# Altium integrated library Renesas Microcontroller H8S.IntLib: 670 symbols (part 6 of 70)
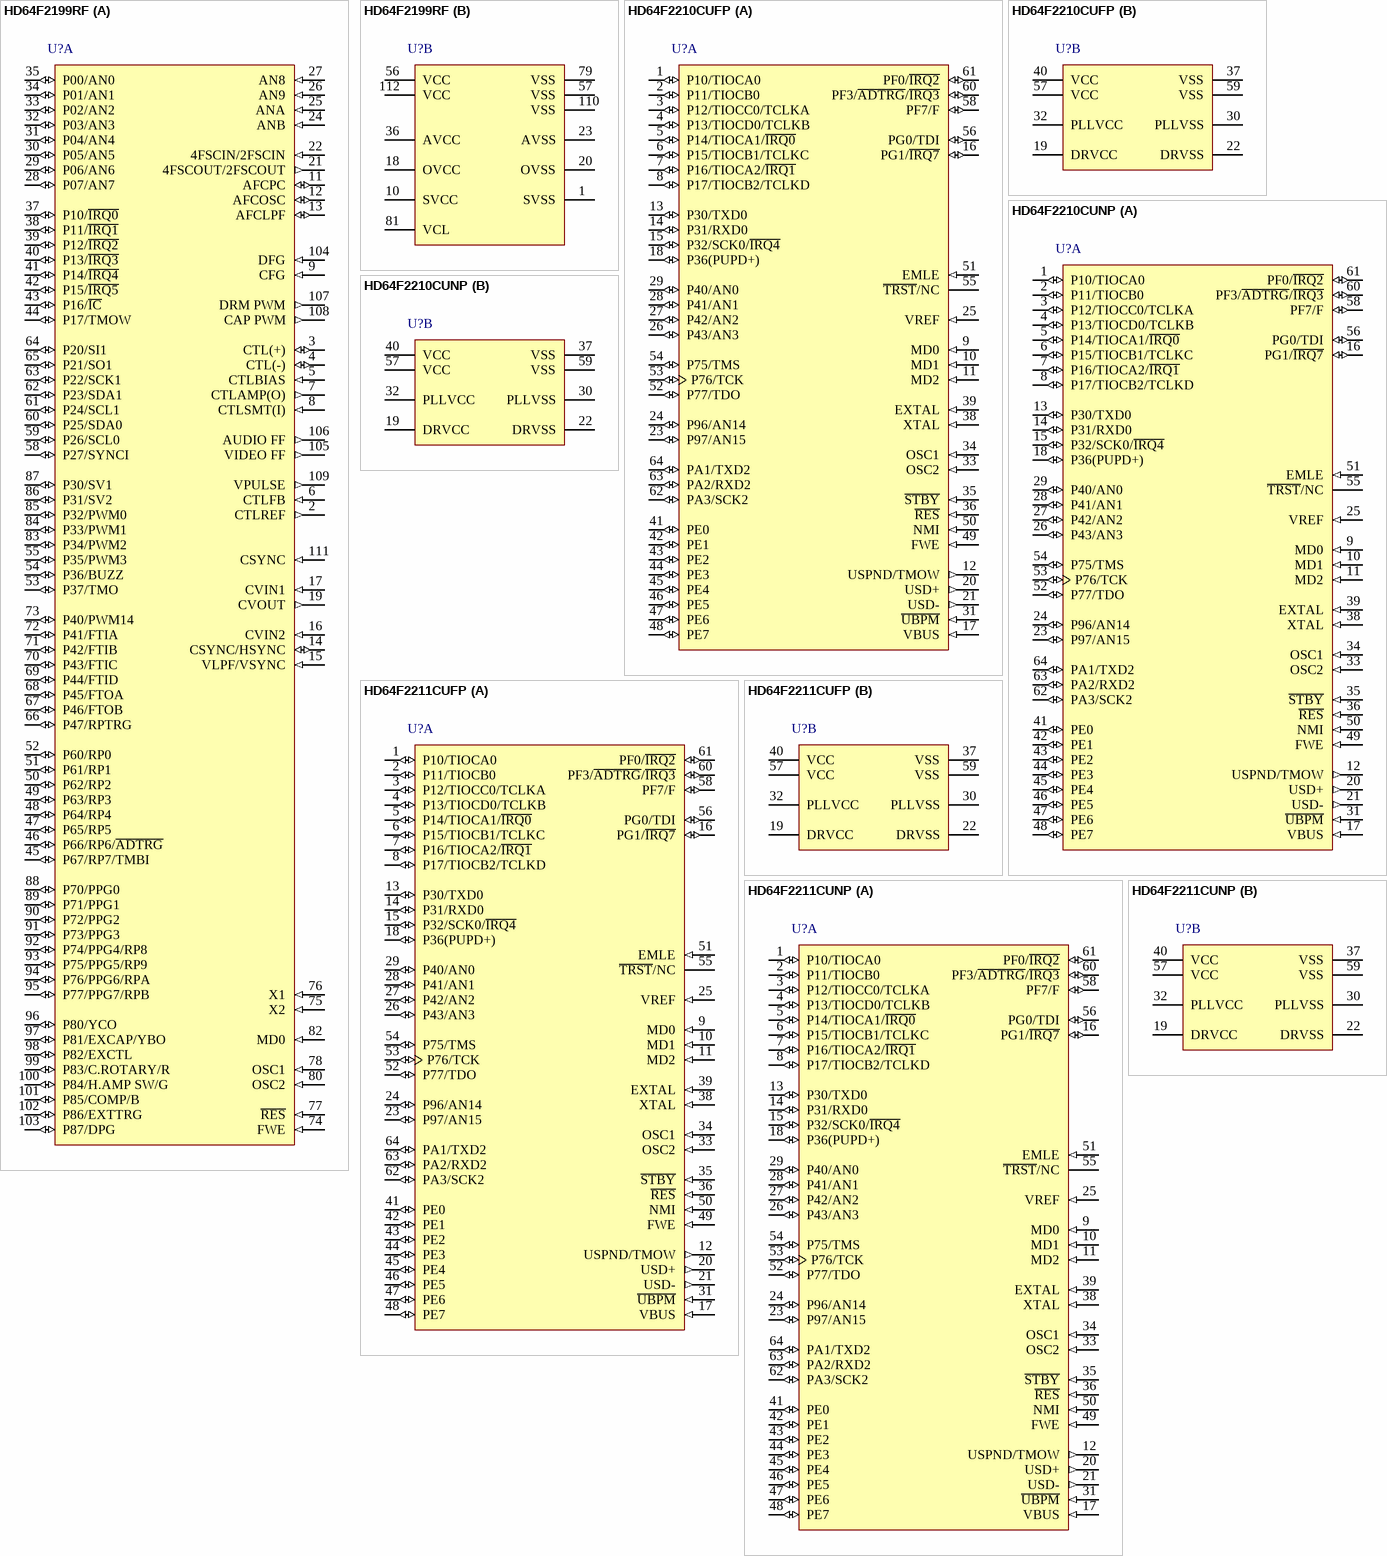
[diagram p347: symbols HD64F2199RF to HD64F2211CUNP]

## HD64F2210CUNP
designator U?
Flash memory H8S/2200 Series, 2212 Group MCU, 32K ROM, 8K RAM, TNP-64B Pkg; Published: 28-Aug-2009; DatasheetVersion: Rev.7.00, Dec-2008; PackageVersion: Jun-2008; PackageReference: PVQN0064LB-A; Publisher: Altium Limited; PackageDescription: 64-Pin Plastic Very Thin QFN, 8 x 8 X 0.89 mm Body, 0.4 mm Pitch; Code_JEITA: P-VQFN64-8x8-0.40; ComponentLink1Description: Manufacturer Link; ComponentLink1URL: http://sg.renesas.com/fmwk.jsp?cnt=h8s_family_landing.jsp&fp=/products/mpumcu/h8s_family/; ComponentLink2Description: Datasheet; ComponentLink2URL: http://documentation.renesas.com/eng/products/mpumcu/rej09b0074_h8s2212.pdf; ComponentLink3Description: Packaging Specification; ComponentLink3URL: http://sg.renesas.com/media/products/common_info/package/pdf/ic/code/pvqn0064lb_a.pdf
footprint PVQN0064LB-A_N (QFN, 64-Leads, Body 8x8 mm, Pitch 0.4mm, IPC Medium Density)
footprint PVQN0064LB-A_L (QFN, 64-Leads, Body 8x8 mm, Pitch 0.4mm, IPC High Density)
footprint PVQN0064LB-A_M (QFN, 64-Leads, Body 8x8 mm, Pitch 0.4mm, IPC Low Density)
part A pins: 1 P10/TIOCA0 (io), 2 P11/TIOCB0 (io), 3 P12/TIOCC0/TCLKA (io), 4 P13/TIOCD0/TCLKB (io), 5 P14/TIOCA1/~{IRQ0} (io), 6 P15/TIOCB1/TCLKC (io), 7 P16/TIOCA2/~{IRQ1} (io), 8 P17/TIOCB2/TCLKD (io), 9 MD0 (in), 10 MD1 (in), 11 MD2 (in), 12 USPND/TMOW (out), 13 P30/TXD0 (io), 14 P31/RXD0 (io), 15 P32/SCK0/~{IRQ4} (io), 16 PG1/~{IRQ7} (io), 17 VBUS (in), 18 P36(PUPD+) (io), 20 USD+ (out), 21 USD- (out), 23 P97/AN15 (io), 24 P96/AN14 (io), 25 VREF (in), 26 P43/AN3 (io), 27 P42/AN2 (io), 28 P41/AN1 (io), 29 P40/AN0 (io), 31 ~{UBPM} (in), 33 OSC2 (in), 34 OSC1 (in), 35 ~{STBY} (in), 36 ~{RES} (in), 38 XTAL (in), 39 EXTAL (in), 41 PE0 (io), 42 PE1 (io), 43 PE2 (io), 44 PE3 (io), 45 PE4 (io), 46 PE5 (io), 47 PE6 (io), 48 PE7 (io), 49 FWE (in), 50 NMI (in), 51 EMLE (in), 52 P77/TDO (io), 53 P76/TCK (io), 54 P75/TMS (io), 55 ~{TRST}/NC, 56 PG0/TDI (io), 58 PF7/F (io), 60 PF3/~{ADTRG}/~{IRQ3} (io), 61 PF0/~{IRQ2} (io), 62 PA3/SCK2 (io), 63 PA2/RXD2 (io), 64 PA1/TXD2 (io)
part B pins: 19 DRVCC (power), 22 DRVSS (power), 30 PLLVSS (power), 32 PLLVCC (power), 37 VSS (power), 40 VCC (power), 57 VCC (power), 59 VSS (power)

## HD64F2211CUFP
designator U?
Flash memory H8S/2200 Series, 2212 Group MCU, 64K ROM, 8K RAM, FP-64E Pkg; Published: 28-Aug-2009; DatasheetVersion: Rev.7.00, Dec-2008; PackageVersion: Sep-2005; PackageReference: PLQP0064KC-A; Publisher: Altium Limited; PackageDescription: 64-Pin Plastic Low Profile QFP, 10 x 10 x 1.45 mm Body, 0.5 mm Pitch; Code_JEITA: P-LQFP64-10x10-0.50; Code_IPC: SQFP50P1200X1200-64; ComponentLink1Description: Manufacturer Link; ComponentLink1URL: http://sg.renesas.com/fmwk.jsp?cnt=h8s_family_landing.jsp&fp=/products/mpumcu/h8s_family/; ComponentLink2Description: Datasheet; ComponentLink2URL: http://documentation.renesas.com/eng/products/mpumcu/rej09b0074_h8s2212.pdf; ComponentLink3Description: Packaging Specification; ComponentLink3URL: http://sg.renesas.com/media/products/common_info/package/pdf/ic/code/plqp0064kc_a.pdf
footprint PLQP0064KC-A_N (Shrink QFP, 64-Leads, Body 10x10mm, Pitch 0.5mm, IPC Medium Density)
footprint PLQP0064KC-A_L (Shrink QFP, 64-Leads, Body 10x10mm, Pitch 0.5mm, IPC High Density)
footprint PLQP0064KC-A_M (Shrink QFP, 64-Leads, Body 10x10mm, Pitch 0.5mm, IPC Low Density)
part A pins: 1 P10/TIOCA0 (io), 2 P11/TIOCB0 (io), 3 P12/TIOCC0/TCLKA (io), 4 P13/TIOCD0/TCLKB (io), 5 P14/TIOCA1/~{IRQ0} (io), 6 P15/TIOCB1/TCLKC (io), 7 P16/TIOCA2/~{IRQ1} (io), 8 P17/TIOCB2/TCLKD (io), 9 MD0 (in), 10 MD1 (in), 11 MD2 (in), 12 USPND/TMOW (out), 13 P30/TXD0 (io), 14 P31/RXD0 (io), 15 P32/SCK0/~{IRQ4} (io), 16 PG1/~{IRQ7} (io), 17 VBUS (in), 18 P36(PUPD+) (io), 20 USD+ (out), 21 USD- (out), 23 P97/AN15 (io), 24 P96/AN14 (io), 25 VREF (in), 26 P43/AN3 (io), 27 P42/AN2 (io), 28 P41/AN1 (io), 29 P40/AN0 (io), 31 ~{UBPM} (in), 33 OSC2 (in), 34 OSC1 (in), 35 ~{STBY} (in), 36 ~{RES} (in), 38 XTAL (in), 39 EXTAL (in), 41 PE0 (io), 42 PE1 (io), 43 PE2 (io), 44 PE3 (io), 45 PE4 (io), 46 PE5 (io), 47 PE6 (io), 48 PE7 (io), 49 FWE (in), 50 NMI (in), 51 EMLE (in), 52 P77/TDO (io), 53 P76/TCK (io), 54 P75/TMS (io), 55 ~{TRST}/NC, 56 PG0/TDI (io), 58 PF7/F (io), 60 PF3/~{ADTRG}/~{IRQ3} (io), 61 PF0/~{IRQ2} (io), 62 PA3/SCK2 (io), 63 PA2/RXD2 (io), 64 PA1/TXD2 (io)
part B pins: 19 DRVCC (power), 22 DRVSS (power), 30 PLLVSS (power), 32 PLLVCC (power), 37 VSS (power), 40 VCC (power), 57 VCC (power), 59 VSS (power)

## HD64F2211CUNP
designator U?
Flash memory H8S/2200 Series, 2212 Group MCU, 64K ROM, 8K RAM, TNP-64B Pkg; Published: 28-Aug-2009; DatasheetVersion: Rev.7.00, Dec-2008; PackageVersion: Jun-2008; PackageReference: PVQN0064LB-A; Publisher: Altium Limited; PackageDescription: 64-Pin Plastic Very Thin QFN, 8 x 8 X 0.89 mm Body, 0.4 mm Pitch; Code_JEITA: P-VQFN64-8x8-0.40; ComponentLink1Description: Manufacturer Link; ComponentLink1URL: http://sg.renesas.com/fmwk.jsp?cnt=h8s_family_landing.jsp&fp=/products/mpumcu/h8s_family/; ComponentLink2Description: Datasheet; ComponentLink2URL: http://documentation.renesas.com/eng/products/mpumcu/rej09b0074_h8s2212.pdf; ComponentLink3Description: Packaging Specification; ComponentLink3URL: http://sg.renesas.com/media/products/common_info/package/pdf/ic/code/pvqn0064lb_a.pdf
footprint PVQN0064LB-A_N (QFN, 64-Leads, Body 8x8 mm, Pitch 0.4mm, IPC Medium Density)
footprint PVQN0064LB-A_L (QFN, 64-Leads, Body 8x8 mm, Pitch 0.4mm, IPC High Density)
footprint PVQN0064LB-A_M (QFN, 64-Leads, Body 8x8 mm, Pitch 0.4mm, IPC Low Density)
part A pins: 1 P10/TIOCA0 (io), 2 P11/TIOCB0 (io), 3 P12/TIOCC0/TCLKA (io), 4 P13/TIOCD0/TCLKB (io), 5 P14/TIOCA1/~{IRQ0} (io), 6 P15/TIOCB1/TCLKC (io), 7 P16/TIOCA2/~{IRQ1} (io), 8 P17/TIOCB2/TCLKD (io), 9 MD0 (in), 10 MD1 (in), 11 MD2 (in), 12 USPND/TMOW (out), 13 P30/TXD0 (io), 14 P31/RXD0 (io), 15 P32/SCK0/~{IRQ4} (io), 16 PG1/~{IRQ7} (io), 17 VBUS (in), 18 P36(PUPD+) (io), 20 USD+ (out), 21 USD- (out), 23 P97/AN15 (io), 24 P96/AN14 (io), 25 VREF (in), 26 P43/AN3 (io), 27 P42/AN2 (io), 28 P41/AN1 (io), 29 P40/AN0 (io), 31 ~{UBPM} (in), 33 OSC2 (in), 34 OSC1 (in), 35 ~{STBY} (in), 36 ~{RES} (in), 38 XTAL (in), 39 EXTAL (in), 41 PE0 (io), 42 PE1 (io), 43 PE2 (io), 44 PE3 (io), 45 PE4 (io), 46 PE5 (io), 47 PE6 (io), 48 PE7 (io), 49 FWE (in), 50 NMI (in), 51 EMLE (in), 52 P77/TDO (io), 53 P76/TCK (io), 54 P75/TMS (io), 55 ~{TRST}/NC, 56 PG0/TDI (io), 58 PF7/F (io), 60 PF3/~{ADTRG}/~{IRQ3} (io), 61 PF0/~{IRQ2} (io), 62 PA3/SCK2 (io), 63 PA2/RXD2 (io), 64 PA1/TXD2 (io)
part B pins: 19 DRVCC (power), 22 DRVSS (power), 30 PLLVSS (power), 32 PLLVCC (power), 37 VSS (power), 40 VCC (power), 57 VCC (power), 59 VSS (power)

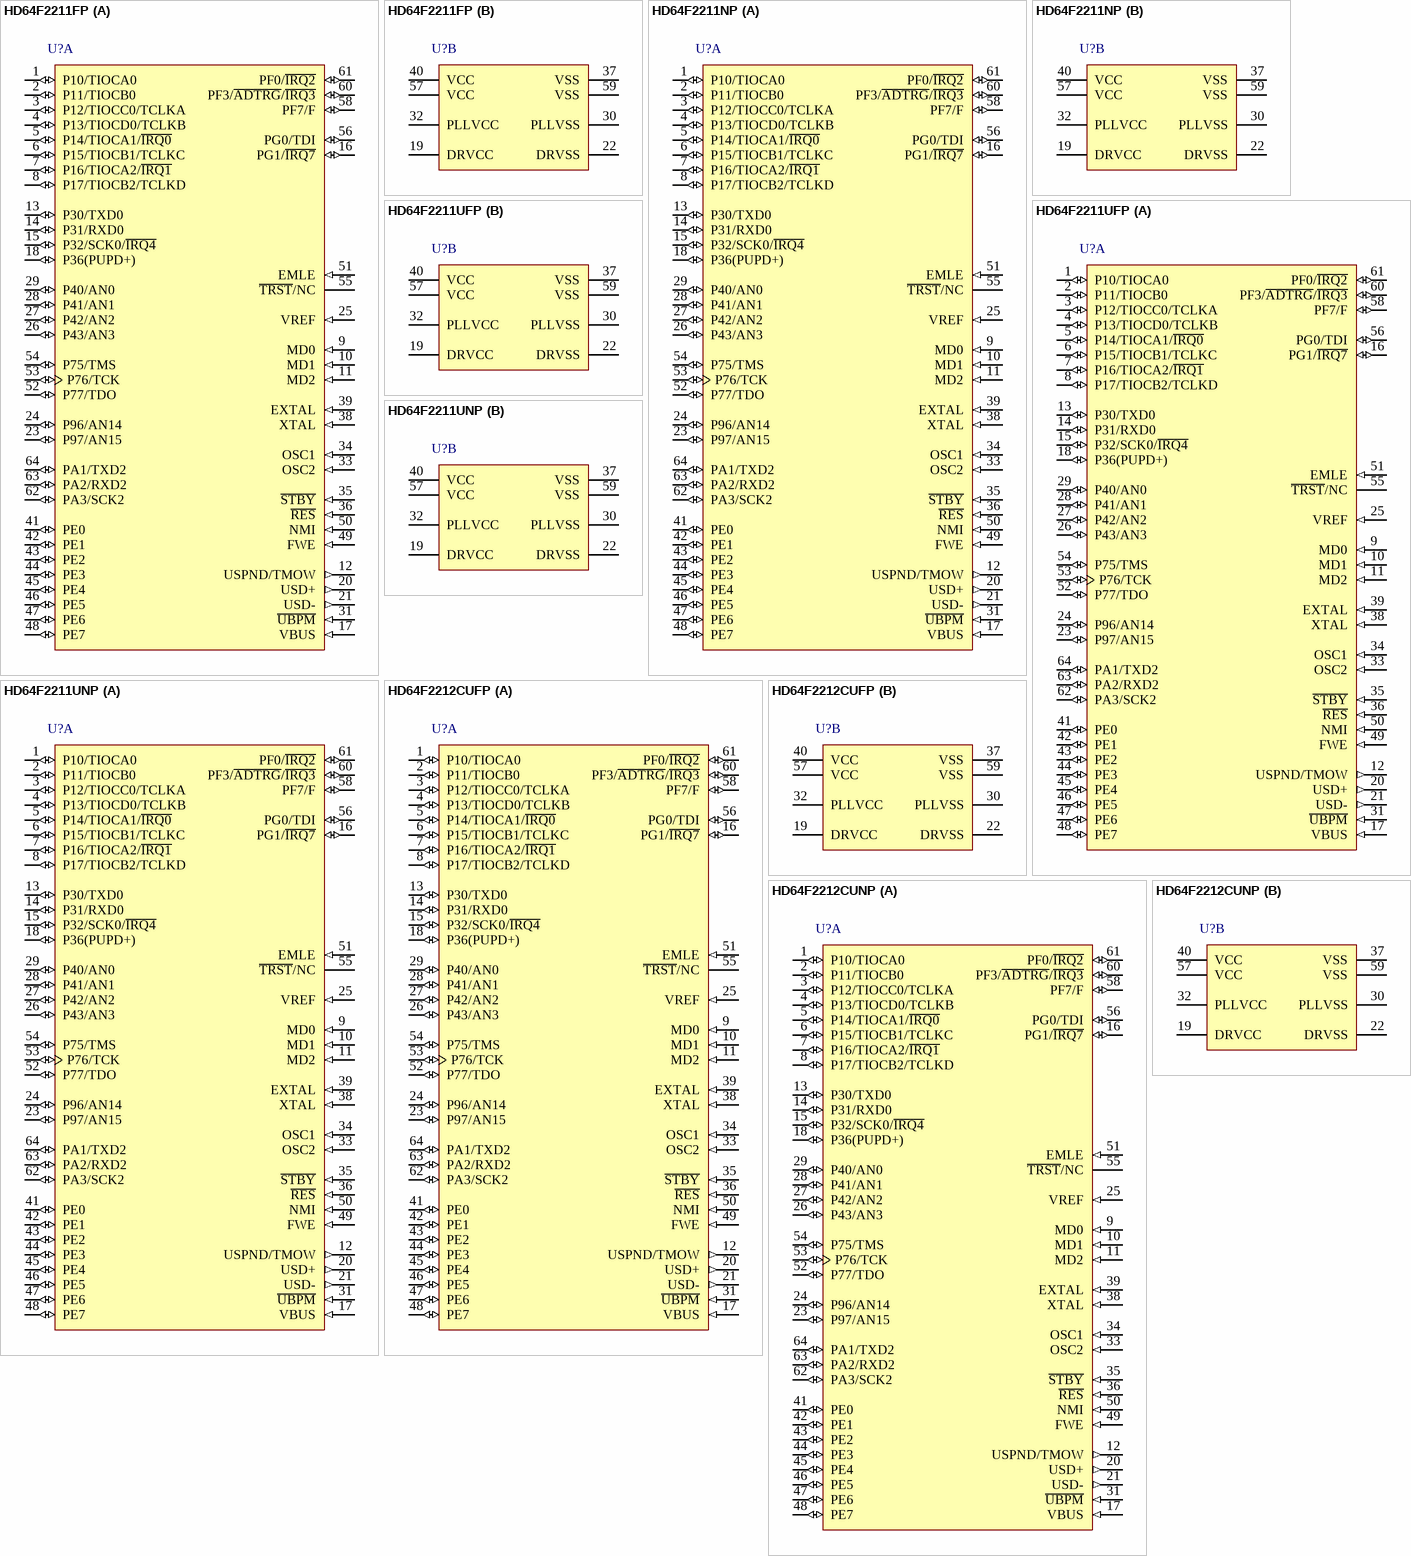
[diagram p22: symbols HD64F2211FP to HD64F2212CUNP]

## HD64F2211FP
designator U?
Flash memory H8S/2200 Series, 2212 Group MCU, 64K ROM, 8K RAM, FP-64E Pkg; Published: 28-Aug-2009; DatasheetVersion: Rev.7.00, Dec-2008; PackageVersion: Sep-2005; PackageReference: PLQP0064KC-A; Publisher: Altium Limited; PackageDescription: 64-Pin Plastic Low Profile QFP, 10 x 10 x 1.45 mm Body, 0.5 mm Pitch; Code_JEITA: P-LQFP64-10x10-0.50; Code_IPC: SQFP50P1200X1200-64; ComponentLink1Description: Manufacturer Link; ComponentLink1URL: http://sg.renesas.com/fmwk.jsp?cnt=h8s_family_landing.jsp&fp=/products/mpumcu/h8s_family/; ComponentLink2Description: Datasheet; ComponentLink2URL: http://documentation.renesas.com/eng/products/mpumcu/rej09b0074_h8s2212.pdf; ComponentLink3Description: Packaging Specification; ComponentLink3URL: http://sg.renesas.com/media/products/common_info/package/pdf/ic/code/plqp0064kc_a.pdf
footprint PLQP0064KC-A_N (Shrink QFP, 64-Leads, Body 10x10mm, Pitch 0.5mm, IPC Medium Density)
footprint PLQP0064KC-A_L (Shrink QFP, 64-Leads, Body 10x10mm, Pitch 0.5mm, IPC High Density)
footprint PLQP0064KC-A_M (Shrink QFP, 64-Leads, Body 10x10mm, Pitch 0.5mm, IPC Low Density)
part A pins: 1 P10/TIOCA0 (io), 2 P11/TIOCB0 (io), 3 P12/TIOCC0/TCLKA (io), 4 P13/TIOCD0/TCLKB (io), 5 P14/TIOCA1/~{IRQ0} (io), 6 P15/TIOCB1/TCLKC (io), 7 P16/TIOCA2/~{IRQ1} (io), 8 P17/TIOCB2/TCLKD (io), 9 MD0 (in), 10 MD1 (in), 11 MD2 (in), 12 USPND/TMOW (out), 13 P30/TXD0 (io), 14 P31/RXD0 (io), 15 P32/SCK0/~{IRQ4} (io), 16 PG1/~{IRQ7} (io), 17 VBUS (in), 18 P36(PUPD+) (io), 20 USD+ (out), 21 USD- (out), 23 P97/AN15 (io), 24 P96/AN14 (io), 25 VREF (in), 26 P43/AN3 (io), 27 P42/AN2 (io), 28 P41/AN1 (io), 29 P40/AN0 (io), 31 ~{UBPM} (in), 33 OSC2 (in), 34 OSC1 (in), 35 ~{STBY} (in), 36 ~{RES} (in), 38 XTAL (in), 39 EXTAL (in), 41 PE0 (io), 42 PE1 (io), 43 PE2 (io), 44 PE3 (io), 45 PE4 (io), 46 PE5 (io), 47 PE6 (io), 48 PE7 (io), 49 FWE (in), 50 NMI (in), 51 EMLE (in), 52 P77/TDO (io), 53 P76/TCK (io), 54 P75/TMS (io), 55 ~{TRST}/NC, 56 PG0/TDI (io), 58 PF7/F (io), 60 PF3/~{ADTRG}/~{IRQ3} (io), 61 PF0/~{IRQ2} (io), 62 PA3/SCK2 (io), 63 PA2/RXD2 (io), 64 PA1/TXD2 (io)
part B pins: 19 DRVCC (power), 22 DRVSS (power), 30 PLLVSS (power), 32 PLLVCC (power), 37 VSS (power), 40 VCC (power), 57 VCC (power), 59 VSS (power)

## HD64F2211NP
designator U?
Flash memory H8S/2200 Series, 2212 Group MCU, 64K ROM, 8K RAM, TNP-64B Pkg; Published: 28-Aug-2009; DatasheetVersion: Rev.7.00, Dec-2008; PackageVersion: Jun-2008; PackageReference: PVQN0064LB-A; Publisher: Altium Limited; PackageDescription: 64-Pin Plastic Very Thin QFN, 8 x 8 X 0.89 mm Body, 0.4 mm Pitch; Code_JEITA: P-VQFN64-8x8-0.40; ComponentLink1Description: Manufacturer Link; ComponentLink1URL: http://sg.renesas.com/fmwk.jsp?cnt=h8s_family_landing.jsp&fp=/products/mpumcu/h8s_family/; ComponentLink2Description: Datasheet; ComponentLink2URL: http://documentation.renesas.com/eng/products/mpumcu/rej09b0074_h8s2212.pdf; ComponentLink3Description: Packaging Specification; ComponentLink3URL: http://sg.renesas.com/media/products/common_info/package/pdf/ic/code/pvqn0064lb_a.pdf
footprint PVQN0064LB-A_N (QFN, 64-Leads, Body 8x8 mm, Pitch 0.4mm, IPC Medium Density)
footprint PVQN0064LB-A_L (QFN, 64-Leads, Body 8x8 mm, Pitch 0.4mm, IPC High Density)
footprint PVQN0064LB-A_M (QFN, 64-Leads, Body 8x8 mm, Pitch 0.4mm, IPC Low Density)
part A pins: 1 P10/TIOCA0 (io), 2 P11/TIOCB0 (io), 3 P12/TIOCC0/TCLKA (io), 4 P13/TIOCD0/TCLKB (io), 5 P14/TIOCA1/~{IRQ0} (io), 6 P15/TIOCB1/TCLKC (io), 7 P16/TIOCA2/~{IRQ1} (io), 8 P17/TIOCB2/TCLKD (io), 9 MD0 (in), 10 MD1 (in), 11 MD2 (in), 12 USPND/TMOW (out), 13 P30/TXD0 (io), 14 P31/RXD0 (io), 15 P32/SCK0/~{IRQ4} (io), 16 PG1/~{IRQ7} (io), 17 VBUS (in), 18 P36(PUPD+) (io), 20 USD+ (out), 21 USD- (out), 23 P97/AN15 (io), 24 P96/AN14 (io), 25 VREF (in), 26 P43/AN3 (io), 27 P42/AN2 (io), 28 P41/AN1 (io), 29 P40/AN0 (io), 31 ~{UBPM} (in), 33 OSC2 (in), 34 OSC1 (in), 35 ~{STBY} (in), 36 ~{RES} (in), 38 XTAL (in), 39 EXTAL (in), 41 PE0 (io), 42 PE1 (io), 43 PE2 (io), 44 PE3 (io), 45 PE4 (io), 46 PE5 (io), 47 PE6 (io), 48 PE7 (io), 49 FWE (in), 50 NMI (in), 51 EMLE (in), 52 P77/TDO (io), 53 P76/TCK (io), 54 P75/TMS (io), 55 ~{TRST}/NC, 56 PG0/TDI (io), 58 PF7/F (io), 60 PF3/~{ADTRG}/~{IRQ3} (io), 61 PF0/~{IRQ2} (io), 62 PA3/SCK2 (io), 63 PA2/RXD2 (io), 64 PA1/TXD2 (io)
part B pins: 19 DRVCC (power), 22 DRVSS (power), 30 PLLVSS (power), 32 PLLVCC (power), 37 VSS (power), 40 VCC (power), 57 VCC (power), 59 VSS (power)

## HD64F2211UFP
designator U?
Flash memory H8S/2200 Series, 2212 Group MCU, 64K ROM, 8K RAM, FP-64E Pkg; Published: 28-Aug-2009; DatasheetVersion: Rev.7.00, Dec-2008; PackageVersion: Sep-2005; PackageReference: PLQP0064KC-A; Publisher: Altium Limited; PackageDescription: 64-Pin Plastic Low Profile QFP, 10 x 10 x 1.45 mm Body, 0.5 mm Pitch; Code_JEITA: P-LQFP64-10x10-0.50; Code_IPC: SQFP50P1200X1200-64; ComponentLink1Description: Manufacturer Link; ComponentLink1URL: http://sg.renesas.com/fmwk.jsp?cnt=h8s_family_landing.jsp&fp=/products/mpumcu/h8s_family/; ComponentLink2Description: Datasheet; ComponentLink2URL: http://documentation.renesas.com/eng/products/mpumcu/rej09b0074_h8s2212.pdf; ComponentLink3Description: Packaging Specification; ComponentLink3URL: http://sg.renesas.com/media/products/common_info/package/pdf/ic/code/plqp0064kc_a.pdf
footprint PLQP0064KC-A_N (Shrink QFP, 64-Leads, Body 10x10mm, Pitch 0.5mm, IPC Medium Density)
footprint PLQP0064KC-A_L (Shrink QFP, 64-Leads, Body 10x10mm, Pitch 0.5mm, IPC High Density)
footprint PLQP0064KC-A_M (Shrink QFP, 64-Leads, Body 10x10mm, Pitch 0.5mm, IPC Low Density)
part A pins: 1 P10/TIOCA0 (io), 2 P11/TIOCB0 (io), 3 P12/TIOCC0/TCLKA (io), 4 P13/TIOCD0/TCLKB (io), 5 P14/TIOCA1/~{IRQ0} (io), 6 P15/TIOCB1/TCLKC (io), 7 P16/TIOCA2/~{IRQ1} (io), 8 P17/TIOCB2/TCLKD (io), 9 MD0 (in), 10 MD1 (in), 11 MD2 (in), 12 USPND/TMOW (out), 13 P30/TXD0 (io), 14 P31/RXD0 (io), 15 P32/SCK0/~{IRQ4} (io), 16 PG1/~{IRQ7} (io), 17 VBUS (in), 18 P36(PUPD+) (io), 20 USD+ (out), 21 USD- (out), 23 P97/AN15 (io), 24 P96/AN14 (io), 25 VREF (in), 26 P43/AN3 (io), 27 P42/AN2 (io), 28 P41/AN1 (io), 29 P40/AN0 (io), 31 ~{UBPM} (in), 33 OSC2 (in), 34 OSC1 (in), 35 ~{STBY} (in), 36 ~{RES} (in), 38 XTAL (in), 39 EXTAL (in), 41 PE0 (io), 42 PE1 (io), 43 PE2 (io), 44 PE3 (io), 45 PE4 (io), 46 PE5 (io), 47 PE6 (io), 48 PE7 (io), 49 FWE (in), 50 NMI (in), 51 EMLE (in), 52 P77/TDO (io), 53 P76/TCK (io), 54 P75/TMS (io), 55 ~{TRST}/NC, 56 PG0/TDI (io), 58 PF7/F (io), 60 PF3/~{ADTRG}/~{IRQ3} (io), 61 PF0/~{IRQ2} (io), 62 PA3/SCK2 (io), 63 PA2/RXD2 (io), 64 PA1/TXD2 (io)
part B pins: 19 DRVCC (power), 22 DRVSS (power), 30 PLLVSS (power), 32 PLLVCC (power), 37 VSS (power), 40 VCC (power), 57 VCC (power), 59 VSS (power)

## HD64F2211UNP
designator U?
Flash memory H8S/2200 Series, 2212 Group MCU, 64K ROM, 8K RAM, TNP-64B Pkg; Published: 28-Aug-2009; DatasheetVersion: Rev.7.00, Dec-2008; PackageVersion: Jun-2008; PackageReference: PVQN0064LB-A; Publisher: Altium Limited; PackageDescription: 64-Pin Plastic Very Thin QFN, 8 x 8 X 0.89 mm Body, 0.4 mm Pitch; Code_JEITA: P-VQFN64-8x8-0.40; ComponentLink1Description: Manufacturer Link; ComponentLink1URL: http://sg.renesas.com/fmwk.jsp?cnt=h8s_family_landing.jsp&fp=/products/mpumcu/h8s_family/; ComponentLink2Description: Datasheet; ComponentLink2URL: http://documentation.renesas.com/eng/products/mpumcu/rej09b0074_h8s2212.pdf; ComponentLink3Description: Packaging Specification; ComponentLink3URL: http://sg.renesas.com/media/products/common_info/package/pdf/ic/code/pvqn0064lb_a.pdf
footprint PVQN0064LB-A_N (QFN, 64-Leads, Body 8x8 mm, Pitch 0.4mm, IPC Medium Density)
footprint PVQN0064LB-A_L (QFN, 64-Leads, Body 8x8 mm, Pitch 0.4mm, IPC High Density)
footprint PVQN0064LB-A_M (QFN, 64-Leads, Body 8x8 mm, Pitch 0.4mm, IPC Low Density)
part A pins: 1 P10/TIOCA0 (io), 2 P11/TIOCB0 (io), 3 P12/TIOCC0/TCLKA (io), 4 P13/TIOCD0/TCLKB (io), 5 P14/TIOCA1/~{IRQ0} (io), 6 P15/TIOCB1/TCLKC (io), 7 P16/TIOCA2/~{IRQ1} (io), 8 P17/TIOCB2/TCLKD (io), 9 MD0 (in), 10 MD1 (in), 11 MD2 (in), 12 USPND/TMOW (out), 13 P30/TXD0 (io), 14 P31/RXD0 (io), 15 P32/SCK0/~{IRQ4} (io), 16 PG1/~{IRQ7} (io), 17 VBUS (in), 18 P36(PUPD+) (io), 20 USD+ (out), 21 USD- (out), 23 P97/AN15 (io), 24 P96/AN14 (io), 25 VREF (in), 26 P43/AN3 (io), 27 P42/AN2 (io), 28 P41/AN1 (io), 29 P40/AN0 (io), 31 ~{UBPM} (in), 33 OSC2 (in), 34 OSC1 (in), 35 ~{STBY} (in), 36 ~{RES} (in), 38 XTAL (in), 39 EXTAL (in), 41 PE0 (io), 42 PE1 (io), 43 PE2 (io), 44 PE3 (io), 45 PE4 (io), 46 PE5 (io), 47 PE6 (io), 48 PE7 (io), 49 FWE (in), 50 NMI (in), 51 EMLE (in), 52 P77/TDO (io), 53 P76/TCK (io), 54 P75/TMS (io), 55 ~{TRST}/NC, 56 PG0/TDI (io), 58 PF7/F (io), 60 PF3/~{ADTRG}/~{IRQ3} (io), 61 PF0/~{IRQ2} (io), 62 PA3/SCK2 (io), 63 PA2/RXD2 (io), 64 PA1/TXD2 (io)
part B pins: 19 DRVCC (power), 22 DRVSS (power), 30 PLLVSS (power), 32 PLLVCC (power), 37 VSS (power), 40 VCC (power), 57 VCC (power), 59 VSS (power)